# Altium footprint library TO-252AA.PcbLib: 1 footprints
Each footprint in its own frame and in the unit in brackets; x right, y up, seen from the top. Pads: shape width x height; smd on the part's side, far side on the other; paste and mask are expansions set on the pad; w line width, h text height; cw(c..) or ccw(c..) is an arc to the next point about the centre after c.
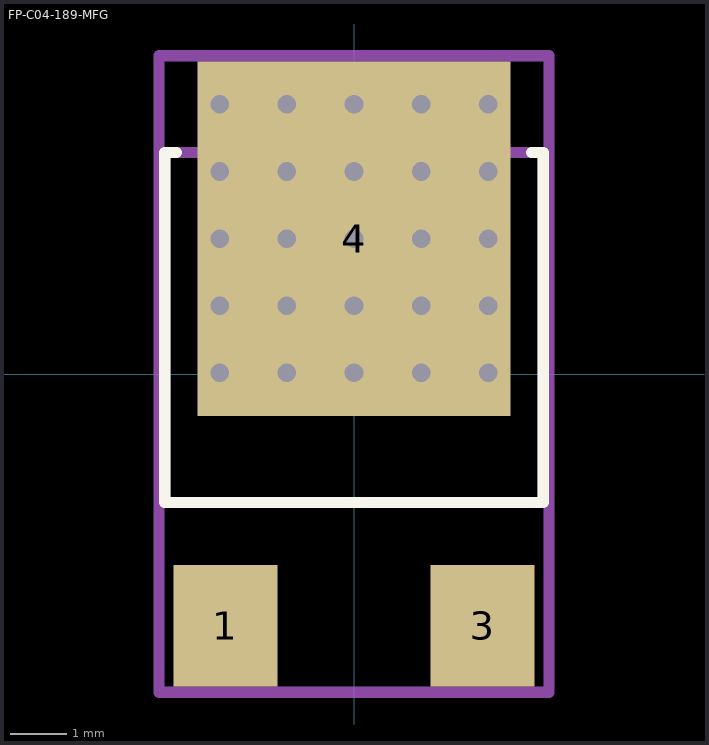
[diagram p0: the footprint, top view; thin cyan lines are the x and y axes]

## FP-C04-189-MFG [mil]
pads (3):
  rect 73x85 smd paste+0 mask+0: 1(-90,-176.25) 3(90,-176.25)
  rect 219x248 smd paste+0 mask+0: 4(0,94.75)
via 94,188.75 diameter 24.81 hole 13
via 47,188.75 diameter 24.81 hole 13
via 0,188.75 diameter 24.81 hole 13
via -47,188.75 diameter 24.81 hole 13
via -94,188.75 diameter 24.81 hole 13
via 94,141.75 diameter 24.81 hole 13
via 47,141.75 diameter 24.81 hole 13
via 0,141.75 diameter 24.81 hole 13
via -47,141.75 diameter 24.81 hole 13
via -94,141.75 diameter 24.81 hole 13
via 94,94.75 diameter 24.81 hole 13
via 47,94.75 diameter 24.81 hole 13
via 0,94.75 diameter 24.81 hole 13
via -47,94.75 diameter 24.81 hole 13
via -94,94.75 diameter 24.81 hole 13
via 94,47.75 diameter 24.81 hole 13
via 47,47.75 diameter 24.81 hole 13
via 0,47.75 diameter 24.81 hole 13
via -47,47.75 diameter 24.81 hole 13
via -94,47.75 diameter 24.81 hole 13
via 94,0.75 diameter 24.81 hole 13
via 47,0.75 diameter 24.81 hole 13
via 0,0.75 diameter 24.81 hole 13
via -47,0.75 diameter 24.81 hole 13
via -94,0.75 diameter 24.81 hole 13
Top Overlay:
  lines w7.87: -124.26,155 -132.5,155 -132.5,-90 132.5,-90 132.5,155 124.26,155
Mechanical 5:
  lines w7.87: -136.44,-222.69 -136.44,222.69 136.44,222.69 136.44,-222.69 -136.44,-222.69
  text ".Designator" at 0,0 h39.37
Mechanical 13:
  lines w7.87: -132.5,-90 -132.5,155 132.5,155 132.5,-90 -132.5,-90
Mechanical 15:
  lines w7.87: -136.44,-222.69 -136.44,222.69 136.44,222.69 136.44,-222.69 -136.44,-222.69
Mechanical 16:
  lines w3.94: -19.68,0 19.68,0 ; 0,-19.68 0,19.68
3D body "Trans_Microchip_LR8K4-G_eec.STEP": height 10, standoff 0, extent -136.44,-222.69 136.44,222.69